# Altium integrated library CM315D32768DZBT.IntLib: 1 symbol
Pins are listed as number, name and electrical type; pins without a type are passive.

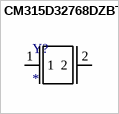
[diagram p0: symbol CM315D32768DZBT]

## CM315D32768DZBT
designator Y?
CRYSTAL 32.7680KHZ 6PF SMD; Manufacturer 1: Citizen; Manufacturer Part Number 1: CM315D32768DZBT; Supplier 1: Digi-Key; Stock 1: 18463; Pricing 1: 1=0.72000, 10=0.63800, 50=0.59600, 100=0.52670, 500=0.49896, 1000=0.41580 (USD); RoHS: No; ComponentLink1URL: https://media.digikey.com/pdf/Data%20Sheets/Citizen%20PDFs/KHz_Crystal_PNG.pdf?src-supplier=Digi-Key; ComponentLink1Description: https://media.digikey.com/pdf/Data%20Sheets/Citizen%20PDFs/KHz_Crystal_PNG.pdf?src-supplier=Digi-Key; ComponentLink2URL: http://cfd.citizen.co.jp/english/prod-tech/product/pdf/datasheet_TF/CM315D_E.pdf?src-supplier=Digi-Key; ComponentLink2Description: http://cfd.citizen.co.jp/english/prod-tech/product/pdf/datasheet_TF/CM315D_E.pdf?src-supplier=Digi-Key
footprint CM315D32768DZBT
pins: 1, 2